# Altium schematic symbol library R_0201.SchLib: 1 symbol
Pins are listed as number, name and electrical type; pins without a type are passive.

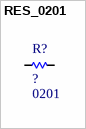
[diagram p0: symbol RES_0201]

## RES_0201
designator R?, comment ?  Package: 0201
25V Thick Film Resistors 0201 Chip Resistor - Surface Mount ROHS; Manufacturer: *; Manufacturer Part: *; Value: ?; LCSC: *; ComponentLink1Description: Datasheet; ComponentLink1URL: https://www.mouser.vn/datasheet/2/447/PYu_RT_1_to_0_01_RoHS_L_12-3003070.pdf
footprint R0201
pins: 1, 2